# EAGLE library part MIC23050 (library thanics_robotics)
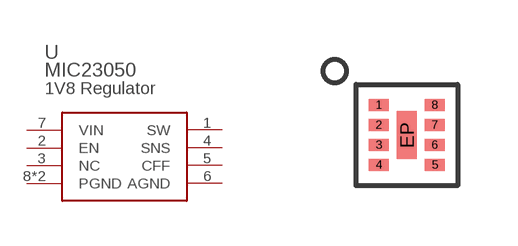
[diagram p13: symbol with the pads of MLF(ML)_8PIN; footprint MLF(ML)_8PIN]

Designator prefix -

## MIC23050  [MLF(ML)_8PIN]
1  SW
2  EN
3  NC
4  SNS
5  CFF
6  AGND
7  VIN
8  PGND
EP  PGND

## Footprint MLF(ML)_8PIN (pad centres in mm)
smd 0.5 x 0.3: 1 -0.7,0.75; 2 -0.7,0.25; 3 -0.7,-0.25; 4 -0.7,-0.75; 5 0.7,-0.75; 6 0.7,-0.25; 7 0.7,0.25; 8 0.7,0.75
smd 0.5 x 1.2: EP 0,0